# Altium footprint library 473460001.PcbLib: 1 footprints
Each footprint in its own frame and in the unit in brackets; x right, y up, seen from the top. Pads: shape width x height; smd on the part's side, far side on the other; paste and mask are expansions set on the pad; w line width, h text height; cw(c..) or ccw(c..) is an arc to the next point about the centre after c.
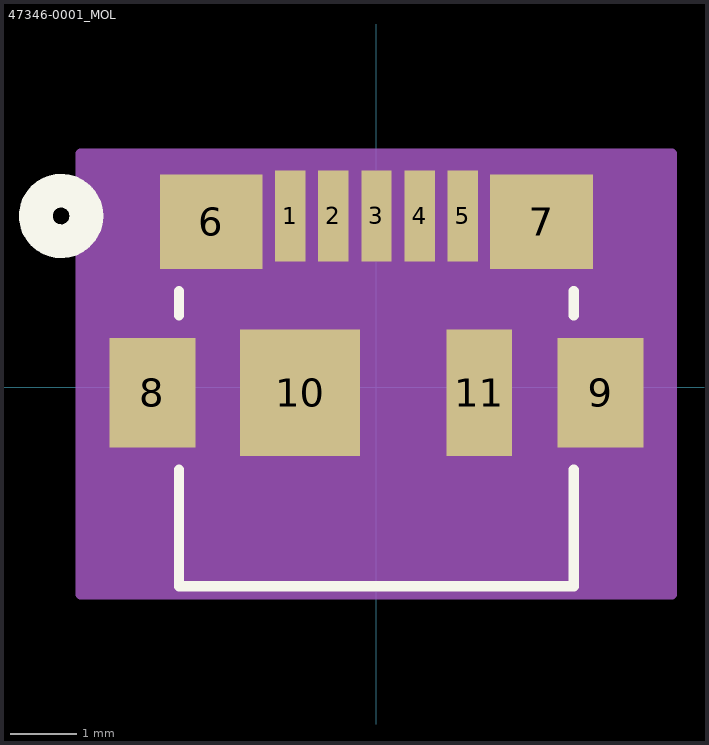
[diagram p0: the footprint, top view; thin cyan lines are the x and y axes]

## 47346-0001_MOL [mil]
pads (11):
  rect 18x54 smd paste+0 mask+0: 1(-51.18,101.58) 2(-25.59,101.58) 3(0,101.58) 4(25.59,101.58) 5(51.18,101.58)
  rect 61x56 smd paste-30.5 mask-30.5: 6(-97.93,98.24) 7(97.93,98.24)
  rect 51x65 smd paste-32.5 mask-32.5: 8(-132.87,-3.14) 9(132.87,-3.14)
  rect 71x75 smd paste-37.5 mask-37.5: 10(-45.28,-3.14)
  rect 39x75 smd paste-37.5 mask-37.5: 11(61,-3.14)
Top Overlay:
  circle w20: c-187,101.58 r15
  lines w6: -117,-48.74 -117,-118 117,-118 117,-48.74 ; -117,42.46 -117,57.14 ; 117,42.46 117,57.14
Bottom Overlay:
  circle w20: c-187,101.58 r15
Mechanical 13:
  circle w20: c-51.18,26.58 r15
  lines w1: -112,-113 112,-113 112,113 -112,113 -112,-113
Mechanical 15:
  region: 175.37,138.74 -175.37,138.74 -175.37,-123 175.37,-123
  lines w6: -175.37,-123 -175.37,138.74 175.37,138.74 175.37,-123 -175.37,-123